# Altium footprint library DTM13-12PA-R008.PcbLib: 2 footprints
Each footprint in its own frame and in the unit in brackets; x right, y up, seen from the top. Pads: shape width x height; smd on the part's side, far side on the other; paste and mask are expansions set on the pad; w line width, h text height; cw(c..) or ccw(c..) is an arc to the next point about the centre after c.
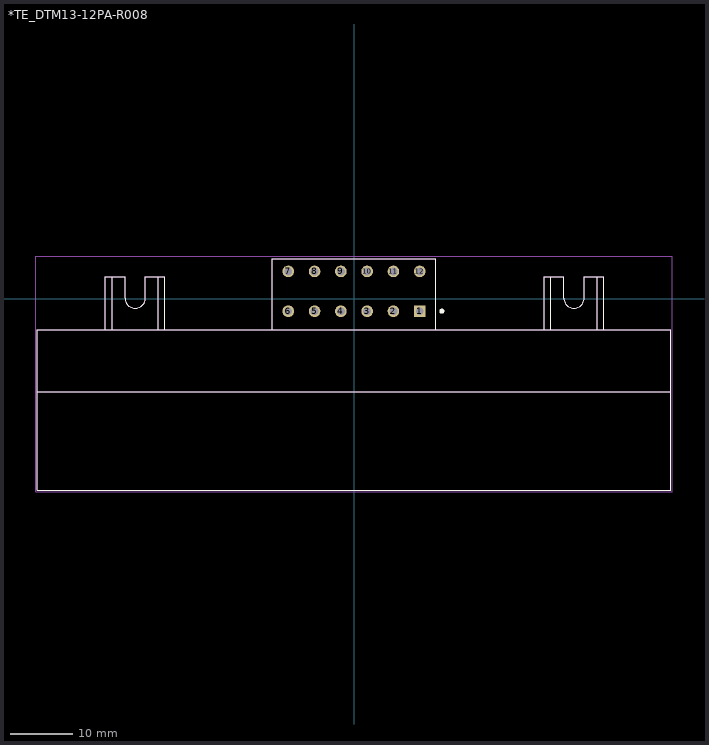
[diagram p0: the footprints below, top view; thin cyan lines are the x and y axes]

## *TE_DTM13-12PA-R008 [mm]
pads (12):
  rect 1.86x1.86 hole 1.24: 1(10.475,-1.96)
  round 1.86 hole 1.24: 2(6.285,-1.96) 3(2.095,-1.96) 4(-2.095,-1.96) 5(-6.285,-1.96) 6(-10.475,-1.96) 7(-10.475,4.39) 8(-6.285,4.39) 9(-2.095,4.39) 10(2.095,4.39) 11(6.285,4.39) 12(10.475,4.39)
Top Overlay:
  circle w0.4: c14,-1.96 r0.2
  lines w0.127: -19.5,-4.91 -30.15,-4.91 ; -50.5,-14.77 -50.5,-30.52 50.5,-30.52 50.5,-14.77 ; -50.5,-14.77 -50.5,-4.91 -13,-4.91 ; -50.5,-14.77 50.5,-14.77 ; -38.58,-4.91 -38.58,3.52 ; -38.58,-4.91 -31.22,-4.91 ; -38.58,-4.91 -39.65,-4.91 -39.65,3.52 -38.58,3.52 ; -38.58,3.52 -36.525,3.52 -36.525,0.145 ccw(c-34.9,0.145) -34.9,-1.48 ccw(c-34.9,0.145) -33.275,0.145 -33.275,3.52 -31.22,3.52 ; -31.22,-4.91 -31.22,3.52 ; -31.22,-4.91 -30.15,-4.91 ; -31.22,3.52 -30.15,3.52 -30.15,-4.91 ; -13,-4.91 -13,6.39 13,6.39 13,-4.91 ; -13,-4.91 13,-4.91 ; 13,-4.91 30.35,-4.91 ; 30.35,-4.91 30.35,3.52 31.42,3.52 ; 30.35,-4.91 31.42,-4.91 ; 31.42,-4.91 31.42,3.52 ; 31.42,-4.91 38.78,-4.91 ; 31.42,3.52 33.475,3.52 33.475,0.145 ccw(c35.1,0.145) 35.1,-1.48 ccw(c35.1,0.145) 36.725,0.145 36.725,3.52 38.78,3.52 ; 38.78,-4.91 38.78,3.52 ; 38.78,-4.91 39.85,-4.91 ; 38.78,3.52 39.85,3.52 39.85,-4.91 ; 39.85,-4.91 50.5,-4.91 50.5,-14.77
Mechanical 4:
  circle w0.4: c10.475,-1.96 r0.2
  circle w0.4: c10.475,-1.96 r0.2
  lines w0.127: -50.5,-30.52 50.5,-30.52 ; -50.5,-30.52 -50.5,-14.77 ; -50.5,-30.52 50.5,-30.52 ; -50.5,-30.52 -50.5,-14.77 ; -50.5,-14.77 -50.5,-4.91 ; -50.5,-14.77 50.5,-14.77 ; -50.5,-14.77 -50.5,-4.91 ; -50.5,-14.77 50.5,-14.77 ; -50.5,-4.91 -13,-4.91 ; -50.5,-4.91 -13,-4.91 ; -39.65,-4.91 -39.65,3.52 ; -39.65,-4.91 -38.58,-4.91 ; -39.65,-4.91 -39.65,3.52 ; -39.65,-4.91 -38.58,-4.91 ; -39.65,3.52 -38.58,3.52 ; -39.65,3.52 -38.58,3.52 ; -38.58,-4.91 -38.58,3.52 ; -38.58,-4.91 -31.22,-4.91 ; -38.58,-4.91 -38.58,3.52 ; -38.58,-4.91 -31.22,-4.91 ; -38.58,3.52 -36.525,3.52 ; -38.58,3.52 -36.525,3.52 ; -36.525,0.145 ccw(c-34.9,0.145) -34.9,-1.48 ; -36.525,0.145 ccw(c-34.9,0.145) -34.9,-1.48 ; -36.525,0.145 -36.525,3.52 ; -36.525,0.145 -36.525,3.52 ; -34.9,-1.48 ccw(c-34.9,0.145) -33.275,0.145 ; -34.9,-1.48 ccw(c-34.9,0.145) -33.275,0.145 ; -33.275,0.145 -33.275,3.52 ; -33.275,0.145 -33.275,3.52 ; -33.275,3.52 -31.22,3.52 ; -33.275,3.52 -31.22,3.52 ; -31.22,-4.91 -31.22,3.52 ; -31.22,-4.91 -30.15,-4.91 ; -31.22,-4.91 -31.22,3.52 ; -31.22,-4.91 -30.15,-4.91 ; -31.22,3.52 -30.15,3.52 ; -31.22,3.52 -30.15,3.52 ; -30.15,-4.91 -30.15,3.52 ; -30.15,-4.91 -19.5,-4.91 -30.15,-4.91 ; -30.15,-4.91 -30.15,3.52 ; -13,-4.91 -13,6.39 ; -13,-4.91 13,-4.91 ; -13,-4.91 -13,6.39 ; -13,-4.91 13,-4.91 ; -13,6.39 13,6.39 ; -13,6.39 13,6.39 ; 13,-4.91 13,6.39 ; 13,-4.91 30.35,-4.91 ; 13,-4.91 13,6.39 ; 13,-4.91 30.35,-4.91 ; 30.35,-4.91 30.35,3.52 ; 30.35,-4.91 31.42,-4.91 ; 30.35,-4.91 30.35,3.52 ; 30.35,-4.91 31.42,-4.91 ; 30.35,3.52 31.42,3.52 ; 30.35,3.52 31.42,3.52 ; 31.42,-4.91 31.42,3.52 ; 31.42,-4.91 38.78,-4.91 ; 31.42,-4.91 31.42,3.52 ; 31.42,-4.91 38.78,-4.91 ; 31.42,3.52 33.475,3.52 ; 31.42,3.52 33.475,3.52 ; 33.475,0.145 ccw(c35.1,0.145) 35.1,-1.48 ; 33.475,0.145 ccw(c35.1,0.145) 35.1,-1.48 ; 33.475,0.145 33.475,3.52 ; 33.475,0.145 33.475,3.52 ; 35.1,-1.48 ccw(c35.1,0.145) 36.725,0.145 ; 35.1,-1.48 ccw(c35.1,0.145) 36.725,0.145 ; 36.725,0.145 36.725,3.52 ; 36.725,0.145 36.725,3.52 ; 36.725,3.52 38.78,3.52 ; 36.725,3.52 38.78,3.52 ; 38.78,-4.91 38.78,3.52 ; 38.78,-4.91 39.85,-4.91 ; 38.78,-4.91 38.78,3.52 ; 38.78,-4.91 39.85,-4.91 ; 38.78,3.52 39.85,3.52 ; 38.78,3.52 39.85,3.52 ; 39.85,-4.91 39.85,3.52 ; 39.85,-4.91 50.5,-4.91 ; 39.85,-4.91 39.85,3.52 ; 39.85,-4.91 50.5,-4.91 ; 50.5,-30.52 50.5,-14.77 ; 50.5,-30.52 50.5,-14.77 ; 50.5,-14.77 50.5,-4.91 ; 50.5,-14.77 50.5,-4.91
Mechanical 16:
  lines w0.05: -50.75,-30.75 -50.75,6.8 50.75,6.8 50.75,-30.75 -50.75,-30.75

## PCBComponent_1 [mm]